# EAGLE library part M16C/10(48PIN) (library renesas_mcu)
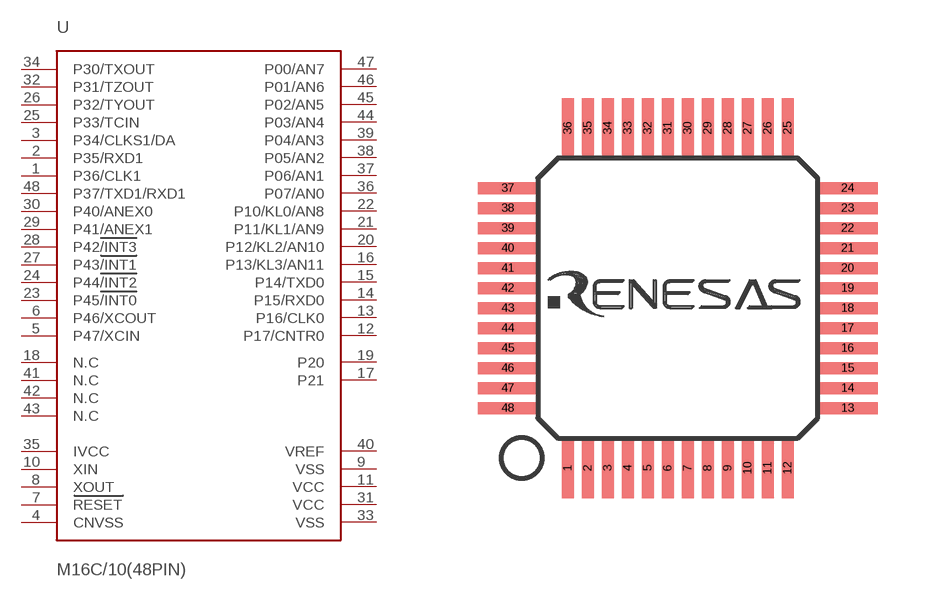
[diagram p23: symbol with the pads of 48P6Q-A; footprint 48P6Q-A]

Designator prefix -

## M16C/10(48PIN)  [48P6Q-A]
1  P36/CLK1
2  P35/RXD1
3  P34/CLKS1/DA
4  CNVSS  in
5  P47/XCIN
6  P46/XCOUT
7  RESET  in
8  XOUT  out
9  VSS  pwr
10  XIN
11  VCC  pwr
12  P17/CNTR0
13  P16/CLK0
14  P15/RXD0
15  P14/TXD0
16  P13/KL3/AN11
17  P21
18  N.C  nc
19  P20
20  P12/KL2/AN10
21  P11/KL1/AN9
22  P10/KL0/AN8
23  P45/INT0
24  P44/INT2
25  P33/TCIN
26  P32/TYOUT
27  P43/INT1
28  P42/INT3
29  P41/ANEX1
30  P40/ANEX0
31  VCC  pwr
32  P31/TZOUT
33  VSS  pwr
34  P30/TXOUT
35  IVCC  in
36  P07/AN0
37  P06/AN1
38  P05/AN2
39  P04/AN3
40  VREF  in
41  N.C  nc
42  N.C  nc
43  N.C  nc
44  P03/AN4
45  P02/AN5
46  P01/AN6
47  P00/AN7
48  P37/TXD1/RXD1

## Footprint 48P6Q-A (pad centres in mm)
smd 0.3 x 1.5: 1 -2.95,-4.35; 2 -2.45,-4.35; 3 -1.95,-4.35; 4 -1.45,-4.35; 5 -0.95,-4.35; 6 -0.45,-4.35; 7 0.05,-4.35; 8 0.55,-4.35; 9 1.05,-4.35; 10 1.55,-4.35; 11 2.05,-4.35; 12 2.55,-4.35; 25 2.55,4.15; 26 2.05,4.15; 27 1.55,4.15; 28 1.05,4.15; 29 0.55,4.15; 30 0.05,4.15; 31 -0.45,4.15; 32 -0.95,4.15; 33 -1.45,4.15; 34 -1.95,4.15; 35 -2.45,4.15; 36 -2.95,4.15
smd 1.5 x 0.3: 13 4.05,-2.85; 14 4.05,-2.35; 15 4.05,-1.85; 16 4.05,-1.35; 17 4.05,-0.85; 18 4.05,-0.35; 19 4.05,0.15; 20 4.05,0.65; 21 4.05,1.15; 22 4.05,1.65; 23 4.05,2.15; 24 4.05,2.65; 37 -4.45,2.65; 38 -4.45,2.15; 39 -4.45,1.65; 40 -4.45,1.15; 41 -4.45,0.65; 42 -4.45,0.15; 43 -4.45,-0.35; 44 -4.45,-0.85; 45 -4.45,-1.35; 46 -4.45,-1.85; 47 -4.45,-2.35; 48 -4.45,-2.85